# Altium schematic symbol library NCP170AXV300T2G.SchLib: 1 symbol
Pins are listed as number, name and electrical type; pins without a type are passive.

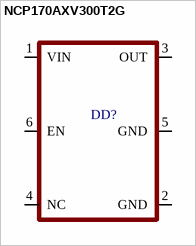
[diagram p0: symbol NCP170AXV300T2G]

## NCP170AXV300T2G
designator DD?
pins: 1 VIN, 2 GND, 3 OUT, 4 NC, 5 GND, 6 EN